# Altium schematic symbol library Transistors.SchLib: 4 symbols
Pins are listed as number, name and electrical type; pins without a type are passive.

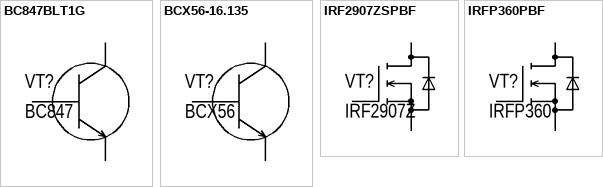
[diagram p0: symbols BC847BLT1G to IRFP360PBF]

## BC847BLT1G
designator VT?, comment BC847
TRANS NPN 45V 100MA SOT23-3; Manufacture: ON Semiconductor; Model: BC847BLT1G; Name: Транзистор биполярный; Case: SOT-23-3 (TO-236); HelpURL: https://www.digikey.com/en/products/detail/on-semiconductor/BC847BLT1G/918344; Value: BC847
footprint SOT-23-3 (TO-236)
pins: 1 B, 2 E, 3 C

## BCX56-16.135
designator VT?, comment BCX56
Bipolar (BJT) Transistor NPN 80 V 1 A 180MHz 500 mW Surface Mount SOT-89; Manufacture: NXP USA Inc.; Model: BCX56-16115; Name: Транзистор биполярный; Case: SOT-89; HelpURL: https://www.digikey.com/en/products/detail/nxp-usa-inc/bcx56-16115/13429942; Value: BCX56
footprint SOT-89 Wave
footprint SOT-89 Reflow
pins: 1 E, 2 C, 3 B

## IRF2907ZSPBF
designator VT?, comment IRF2907Z
N-Channel 75 V 160A (Tc) 300W (Tc) Surface Mount D2PAK; Manufacture: Infineon Technologies; Model: IRF2907ZSPBF; Name: Транзистор MOSFET; Case: TO-263-3, D²Pak (2 Leads + Tab), TO-263AB; HelpURL: https://www.digikey.com/en/products/detail/infineon-technologies/IRF2907ZSPBF/11534045; Value: IRF2907Z
footprint D2PAK
footprint TO-220-3
footprint TO-262-3
footprint TO-220-3 + SK29-25S
pins: 1 G, 2 D, 3 S

## IRFP360PBF
designator VT?, comment IRFP360
MOSFET N-CH 400V 23A TO247-3; Manufacture: Vishay Siliconix; Model: IRFP360PBF; Name: Транзистор MOSFET; Case: TO-247-3; HelpURL: https://www.digikey.com/en/products/detail/vishay-siliconix/IRFP360PBF/811585?s=N4IgTCBcDaIJYCcBmAHAzANgAwoEZJAF0BfIA; Value: IRFP360
footprint TO-247-3
footprint TO-247-3 AC + SK-437-35-STS
pins: 1 G, 2 D, 3 S